# Altium schematic symbol library SCH - INTERFACE - Prolific PL2303SA.Schlib: 1 symbol
Pins are listed as number, name and electrical type; pins without a type are passive.

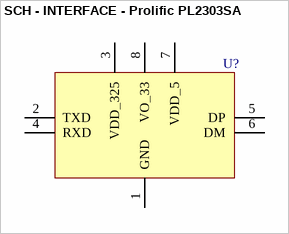
[diagram p0: symbol SCH - INTERFACE - Prolific PL2303SA]

## SCH - INTERFACE - Prolific PL2303SA
designator U?
footprint SOP8 (SOP, 8-Leads, Body 5,0x4,0mm (max), Pitch 1,27mm, IPC Medium Density)
pins: 1 GND, 2 TXD, 3 VDD_325, 4 RXD, 5 DP, 6 DM, 7 VDD_5, 8 VO_33